# Altium footprint library SM_SOT23_GATE_SOURCE_DRAIN.PcbLib: 1 footprints
Each footprint in its own frame and in the unit in brackets; x right, y up, seen from the top. Pads: shape width x height; smd on the part's side, far side on the other; paste and mask are expansions set on the pad; w line width, h text height; cw(c..) or ccw(c..) is an arc to the next point about the centre after c.
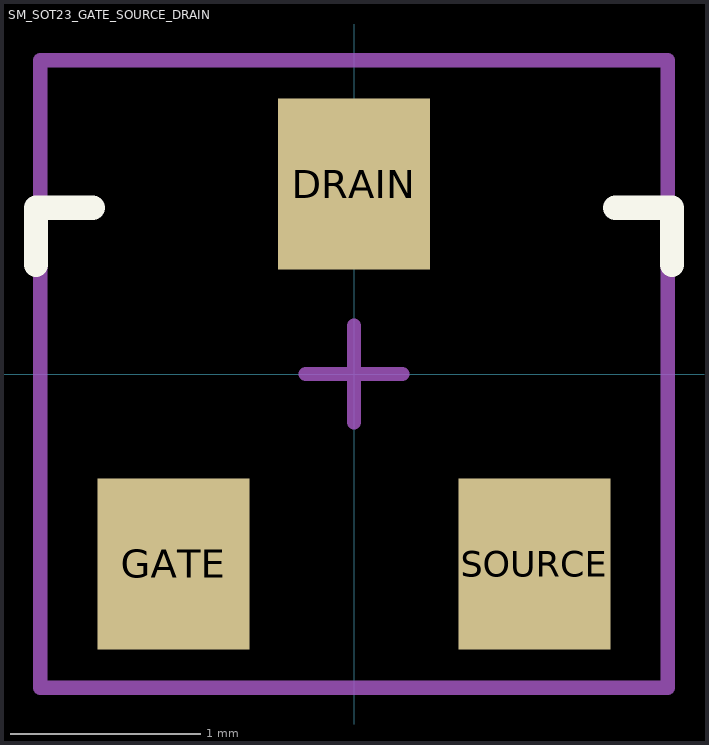
[diagram p0: the footprint, top view; thin cyan lines are the x and y axes]

## SM_SOT23_GATE_SOURCE_DRAIN [mm]
pads (3):
  rect 0.8x0.9 smd: DRAIN(0,1) GATE(-0.95,-1) SOURCE(0.95,-1)
Top Overlay:
  lines w0.127: -1.675,0.575 -1.675,0.875 -1.375,0.875 ; 1.375,0.875 1.675,0.875 1.675,0.575
Mechanical 15:
  lines w0.076: -0.254,0 0.254,0 ; 0,-0.254 0,0.254 ; -1.651,-1.651 1.651,-1.651 1.651,1.651 0,1.651 -1.651,1.651 -1.651,-1.651
3D body: height 0.1, standoff 0, extent 0.7,-1.25 1.2,-0.65
3D body: height 0.1, standoff 0, extent -1.2,-1.25 -0.7,-0.65
3D body: height 0.1, standoff 0, extent -0.25,0.65 0.25,1.25
3D body: height 1.2, standoff 0, extent -1.5,-0.7 1.5,0.7